# EAGLE library part POLOLU_MAX14870 (library FA3D_lib)
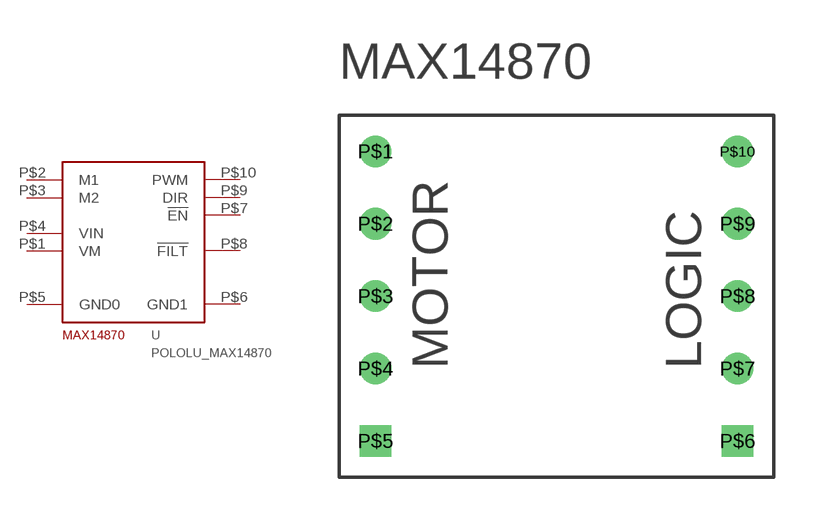
[diagram p1: symbol with the pads of PL_MAX14870; footprint PL_MAX14870]

Designator prefix -

## POLOLU_MAX14870  [PL_MAX14870]
P$1  VM
P$2  M1
P$3  M2
P$4  VIN
P$5  GND0
P$6  GND1
P$7  !EN
P$8  !FILT
P$9  DIR
P$10  PWM

## Footprint PL_MAX14870 (pad centres in mm)
drill 0.6: P$1 1.27,-1.27; P$2 1.27,-3.81; P$3 1.27,-6.35; P$4 1.27,-8.89; P$7 13.97,-8.89; P$8 13.97,-6.35; P$9 13.97,-3.81; P$10 13.97,-1.27
drill 0.6 square: P$5 1.27,-11.43; P$6 13.97,-11.43